# EAGLE library part HERMAPHRODITMINI6PIN (library diskohedron)
MINIATURE HERMAPHRODITIC (6P) 1971567-3 TE Internal Number: 1971567-3 http://www.te.com/catalog/bin/TE.Connect?S=29506&M=PPROP&P=&BML=&LG=1&PG=1&IDS=517146,517147,517148&N=3
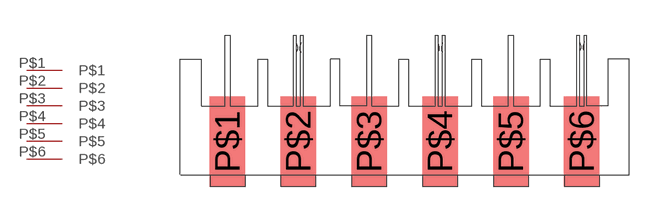
[diagram p4: symbol with the pads of HERMAPHRODITMINI6PIN; footprint HERMAPHRODITMINI6PIN]

Designator prefix -

## HERMAPHRODITMINI6PIN  [HERMAPHRODITMINI6PIN]
P$1  P$1
P$2  P$2
P$3  P$3
P$4  P$4
P$5  P$5
P$6  P$6

## Footprint HERMAPHRODITMINI6PIN (pad centres in mm)
smd 1.5 x 3.8: P$1 1.996,1.406; P$2 4.997,1.406; P$3 7.997,1.406; P$4 10.997,1.406; P$5 13.997,1.406; P$6 16.997,1.406